# Altium schematic symbol library Schematics.SchLib: 1 symbol
Pins are listed as number, name and electrical type; pins without a type are passive.

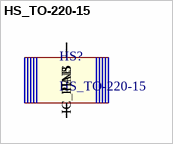
[diagram p0: symbol HS_TO-220-15]

## HS_TO-220-15
designator HS?
TO-220-15 (Multiwatt-15) heatsink
footprint HS_TO-220-15 (TO-220-15 (Multiwatt-15) heatsink)
pins: 1 PINS, 1 IC_TAB